# EAGLE library part PCIE-036-02-F-D-EMS2 (library CONNECTORs)
36 Position Female Connector PCI Express™ Gold 0.039" (1.00mm) Black
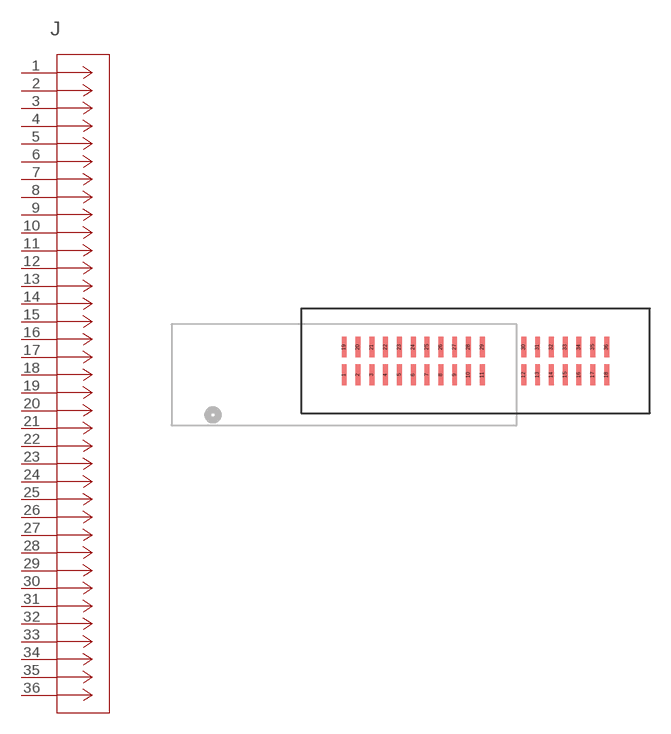
[diagram p73: symbol with the pads of CONN36_PCIE_25X7P3_SAI; footprint CONN36_PCIE_25X7P3_SAI]

Designator prefix J

## PCIE-036-02-F-D-EMS2 (DIGIKEY: SAM10624-ND; HEIGHT: 10; PRICE_PER: 5.1; VALUE: PCIE-036-02-F-D-EMS2)  [CONN36_PCIE_25X7P3_SAI]
1  1  pas
2  2  pas
3  3  pas
4  4  pas
5  5  pas
6  6  pas
7  7  pas
8  8  pas
9  9  pas
10  10  pas
11  11  pas
12  12  pas
13  13  pas
14  14  pas
15  15  pas
16  16  pas
17  17  pas
18  18  pas
19  19  pas
20  20  pas
21  21  pas
22  22  pas
23  23  pas
24  24  pas
25  25  pas
26  26  pas
27  27  pas
28  28  pas
29  29  pas
30  30  pas
31  31  pas
32  32  pas
33  33  pas
34  34  pas
35  35  pas
36  36  pas

## Footprint CONN36_PCIE_25X7P3_SAI (pad centres in mm)
smd 0.356 x 1.499: 1 -9.5,-1; 2 -8.5,-1; 3 -7.5,-1; 4 -6.5,-1; 5 -5.5,-1; 6 -4.5,-1; 7 -3.5,-1; 8 -2.5,-1; 9 -1.5,-1; 10 -0.5,-1; 11 0.5,-1; 12 3.5,-1; 13 4.5,-1; 14 5.5,-1; 15 6.5,-1; 16 7.5,-1; 17 8.5,-1; 18 9.5,-1; 19 -9.5,1; 20 -8.5,1; 21 -7.5,1; 22 -6.5,1; 23 -5.5,1; 24 -4.5,1; 25 -3.5,1; 26 -2.5,1; 27 -1.5,1; 28 -0.5,1; 29 0.5,1; 30 3.5,1; 31 4.5,1; 32 5.5,1; 33 6.5,1; 34 7.5,1; 35 8.5,1; 36 9.5,1